# Altium footprint library 46765-0001.PcbLib: 1 footprints
Each footprint in its own frame and in the unit in brackets; x right, y up, seen from the top. Pads: shape width x height; smd on the part's side, far side on the other; paste and mask are expansions set on the pad; w line width, h text height; cw(c..) or ccw(c..) is an arc to the next point about the centre after c.
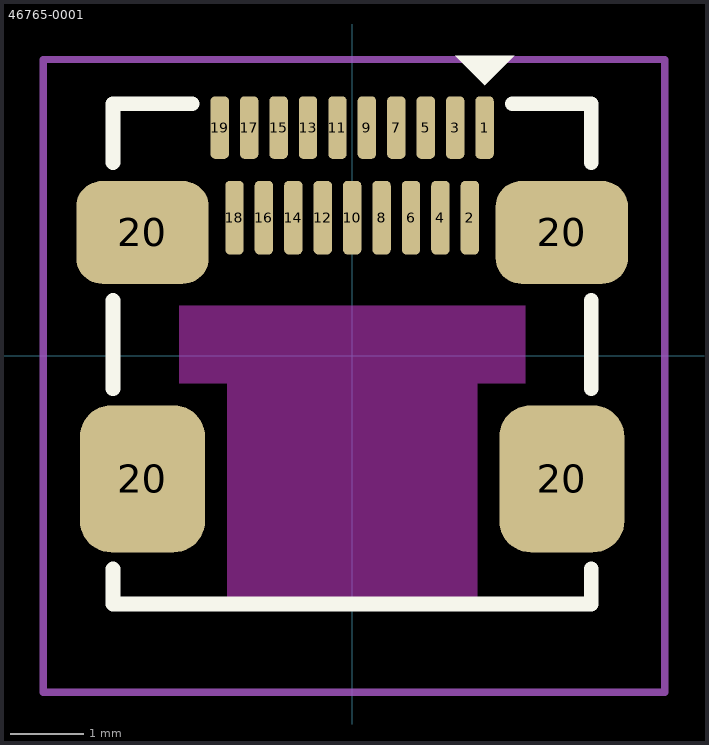
[diagram p0: the footprint, top view; thin cyan lines are the x and y axes]

## 46765-0001 [mm]
pads (23):
  rrect50% 0.25x0.85 smd: 1(1.8,3.1) 3(1.4,3.1) 5(1,3.1) 7(0.6,3.1) 9(0.2,3.1) 11(-0.2,3.1) 13(-0.6,3.1) 15(-1,3.1) 17(-1.4,3.1) 19(-1.8,3.1)
  rrect50% 0.25x1 smd: 2(1.6,1.875) 4(1.2,1.875) 6(0.8,1.875) 8(0.4,1.875) 10(0,1.875) 12(-0.4,1.875) 14(-0.8,1.875) 16(-1.2,1.875) 18(-1.6,1.875)
  rrect50% 1.7x2 smd: 20(-2.85,-1.675) 20(2.85,-1.675)
  rrect50% 1.8x1.4 smd: 20(-2.85,1.675) 20(2.85,1.675)
Top Layer keep-out:
  region: 2.35,-0.375 1.7,-0.375 1.7,-3.375 -1.7,-3.375 -1.7,-0.375 -2.35,-0.375 -2.35,0.675 2.35,0.675
Top Overlay:
  region: 1.4,4.075 2.2,4.075 1.8,3.675
  lines w0.2: -3.25,-2.9 -3.25,-3.375 3.25,-3.375 3.25,-2.9 ; -3.25,-0.45 -3.25,0.75 ; -3.25,2.625 -3.25,3.425 -2.175,3.425 ; 2.175,3.425 3.25,3.425 3.25,2.625 ; 3.25,-0.45 3.25,0.75
Top Courtyard:
  lines w0.1: -4.2,-4.575 -4.2,-2.675 -4.2,4.025 1.025,4.025 4.25,4.025 4.25,-4.575 -4.2,-4.575
3D body "467650001.stp": height 2.97, standoff 0, extent -3.25,-4.075 3.25,3.425